# Altium schematic symbol library CONNECTOR3PIN.SchLib: 1 symbol
Pins are listed as number, name and electrical type; pins without a type are passive.

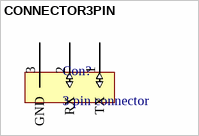
[diagram p0: symbol CONNECTOR3PIN]

## CONNECTOR3PIN
designator Con?, comment 3 pin connector
footprint connector3pin
pins: 1 TX (io), 2 RX (io), 3 GND (power)